# EAGLE library part IS66WVS4M8BLL-104NLI (library IS66WVS4M8BLL-104NLI)
PSRAM (Pseudo SRAM) Memory IC 32Mbit SPI, QPI 104 MHz 7 ns 8-SOIC Source: Datasheet <https://www.issi.com/WW/pdf/66-67WVS4M8ALL-BLL.pdf>
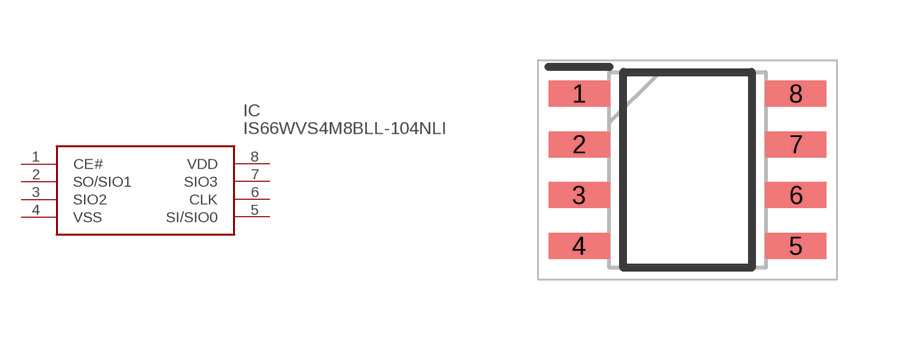
[diagram p0: symbol with the pads of SOIC127P600X175-8N; footprint SOIC127P600X175-8N]

Designator prefix IC

## IS66WVS4M8BLL-104NLI (Description: PSRAM (Pseudo SRAM) Memory IC 32Mbit SPI, QPI 104 MHz 7 ns 8-SOIC; Height: 1.75mm; Manufacturer_Name: Integrated Silicon Solution Inc.; Manufacturer_Part_Number: IS66WVS4M8BLL-104NLI; Mouser_Part_Number: 870-ISS4M8BLL-104NLI; Mouser_Price-Stock: https://www.mouser.co.uk/ProductDetail/ISSI/IS66WVS4M8BLL-104NLI?qs=doiCPypUmgHfByEUFkOsAw%3D%3D)  [SOIC127P600X175-8N]
1  CE#
2  SO/SIO1
3  SIO2
4  VSS
5  SI/SIO0
6  CLK
7  SIO3
8  VDD

## Footprint SOIC127P600X175-8N (pad centres in mm)
8-PIN JEDEC 150MIL BROAD SMALL OUTLINE INTEGRATED CIRCUIT (SOIC) PACKAGE (N)_2023
smd 1.525 x 0.65: 1 -2.712,1.905; 2 -2.712,0.635; 3 -2.712,-0.635; 4 -2.712,-1.905; 5 2.712,-1.905; 6 2.712,-0.635; 7 2.712,0.635; 8 2.712,1.905